# Altium schematic symbol library ADIS16201.SchLib: 1 symbol
Pins are listed as number, name and electrical type; pins without a type are passive.

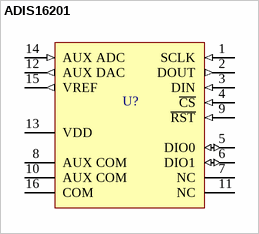
[diagram p0: symbol ADIS16201]

## ADIS16201
designator U?
Dual-axis inclinometer/accelerometer measurements
pins: 1 SCLK (in), 2 DOUT (out), 3 DIN (in), 4 ~{CS} (in), 5 DIO0 (io), 6 DIO1 (io), 7 NC, 8 AUX COM (power), 9 ~{RST} (in), 10 AUX COM (power), 11 NC, 12 AUX DAC (out), 13 VDD (power), 14 AUX ADC (in), 15 VREF (out), 16 COM (power)